# Altium schematic symbol library 2920L700_24GR.SchLib: 1 symbol
Pins are listed as number, name and electrical type; pins without a type are passive.

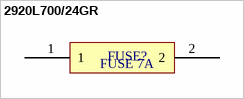
[diagram p0: symbol 2920L700/24GR]

## 2920L700/24GR
designator FUSE?  (value not drawn)
footprint 2920L700/24GR
pins: 1, 2
text: FUSE 7A